# EAGLE library part 776267-1 (library IFE_AMPSEAL_Conn)
AMPSEAL 14pin Connector Ampseal 14-pin connector Model: 776267-1
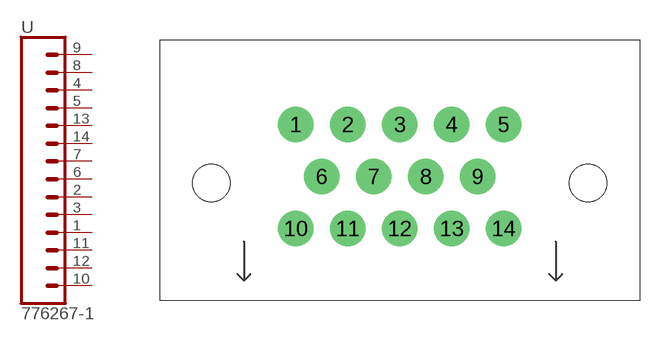
[diagram p1: symbol with the pads of 776267-1; footprint 776267-1]

Designator prefix -

## 776267-1  [776267-1]
1  4  pas
2  6  pas
3  5  pas
4  12  pas
5  11  pas
6  7  pas
7  8  pas
8  13  pas
9  14  pas
10  1  pas
11  3  pas
12  2  pas
13  10  pas
14  9  pas

## Footprint 776267-1 (pad centres in mm)
drill 1.8: 1 10.5,13.5; 2 14.5,13.5; 3 18.5,13.5; 4 22.5,13.5; 5 26.5,13.5; 6 12.5,9.5; 7 16.5,9.5; 8 20.5,9.5; 9 24.5,9.5; 10 10.5,5.5; 11 14.5,5.5; 12 18.5,5.5; 13 22.5,5.5; 14 26.5,5.5
hole 2.85 at 4,9
hole 2.85 at 33,9